# Altium footprint library WS-TASV.PcbLib: 101 footprints (part 6 of 7)
Each footprint in its own frame and in the unit in brackets; x right, y up, seen from the top. Pads: shape width x height; smd on the part's side, far side on the other; paste and mask are expansions set on the pad; w line width, h text height; cw(c..) or ccw(c..) is an arc to the next point about the centre after c.
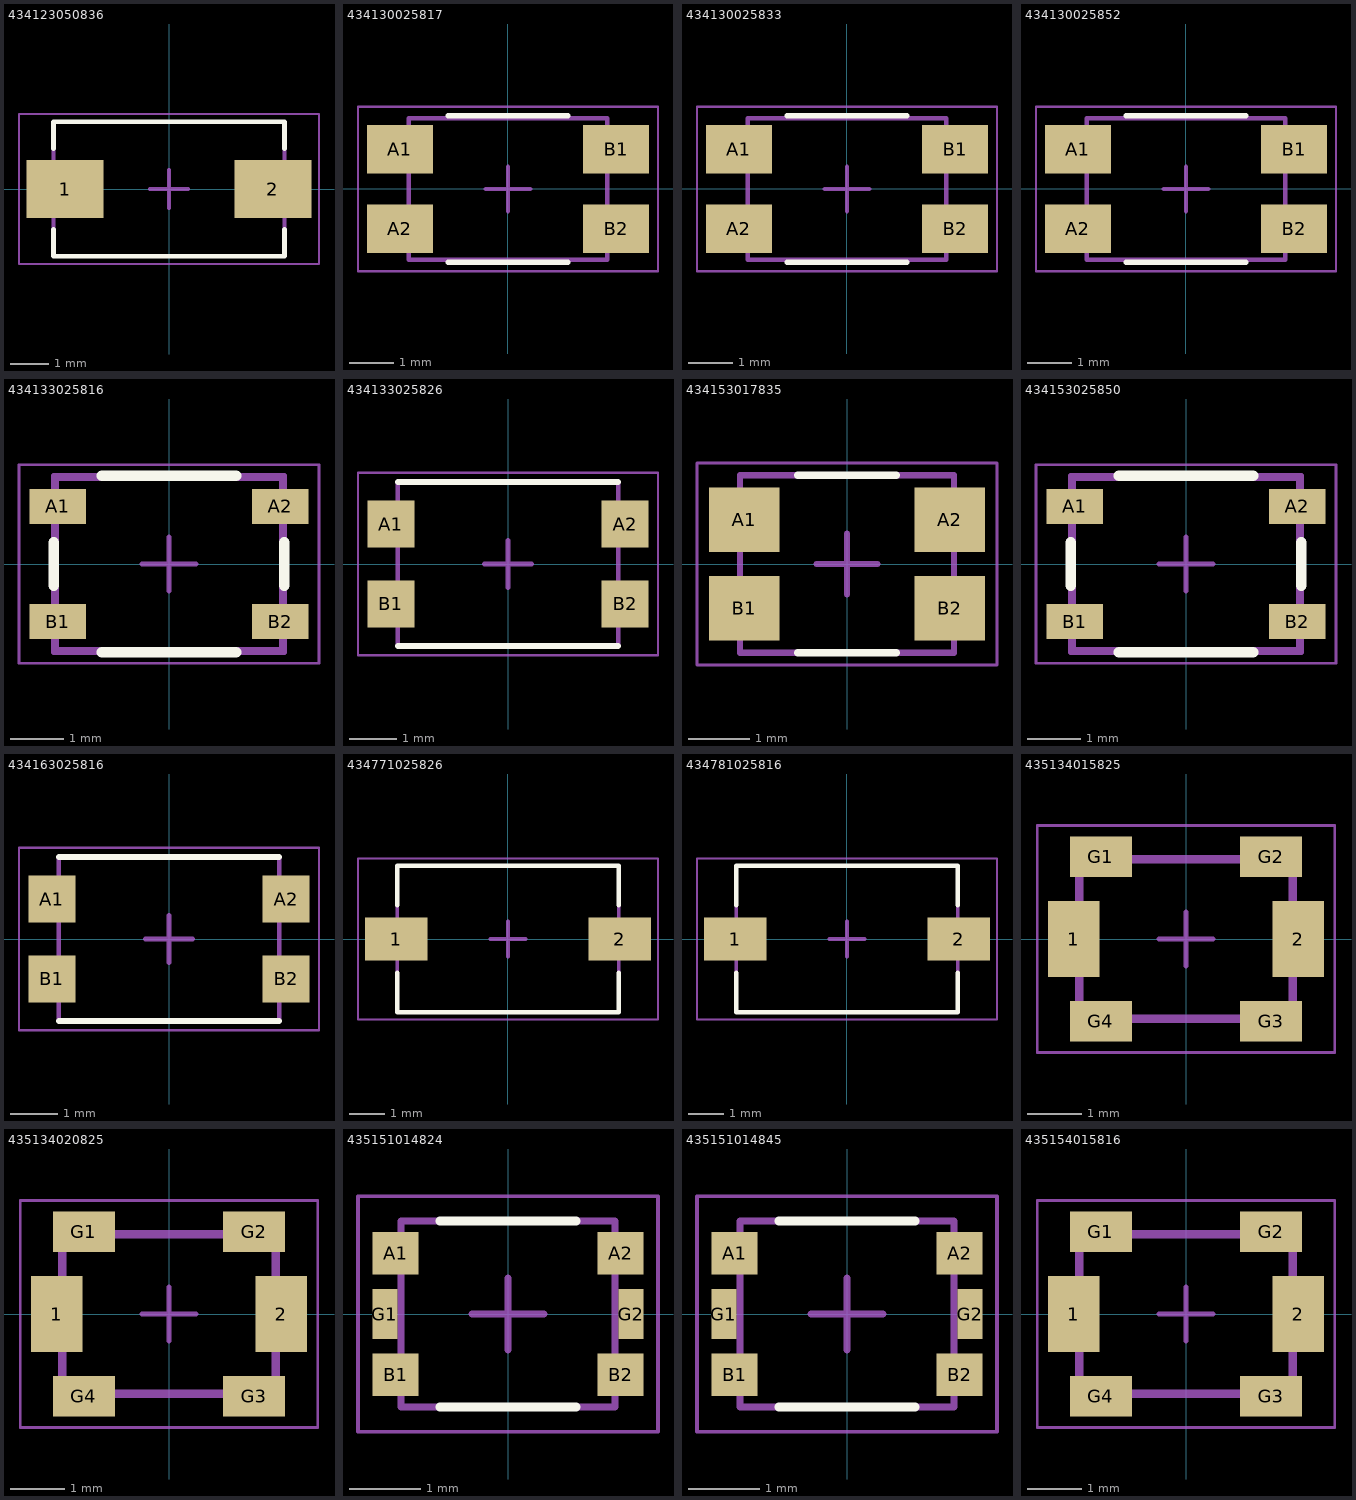
[diagram p5: the footprints below, top view; thin cyan lines are the x and y axes]

## 434123050836 [mm] "SMD Tact Switch, body 6x3.5mm"
height 5
pads (2):
  rect 2x1.5 smd: 1(-2.7,0) 2(2.7,0)
Top Overlay:
  lines w0.127: -3,-1.05 -3,-1.75 3,-1.75 3,-1.05 ; -3,1.05 -3,1.75 3,1.75 3,1.05
Top Assembly:
  lines w0.1: -3,-1.75 3,-1.75 3,1.75 -3,1.75 -3,-1.75
Top Designator:
  text ".Designator" at -3.647,-0.357 h1
Top Courtyard:
  lines w0.05: -3.9,-1.95 -3.9,1.95 3.9,1.95 3.9,-1.95 -3.9,-1.95
Top Component Center:
  lines w0.1: -0.5,0 0.5,0 ; 0,-0.5 0,0.5
3D body "4341x30508x6.stp": height 5, standoff 0, extent -3.649,-1.75 3.65,1.75

## 434130025817 [mm] "Tact Switch, body 4.90 x 3.20 mm"
height 2.5
pads (4):
  rect 1.5x1.1 smd: A1(-2.45,0.9) A2(-2.45,-0.9) B1(2.45,0.9) B2(2.45,-0.9)
Top Overlay:
  lines w0.127: -1.35,-1.663 1.35,-1.663 ; -1.35,1.663 1.35,1.663
Top Assembly:
  lines w0.1: -2.25,-1.6 -2.25,1.6 2.25,1.6 2.25,-1.6 -2.25,-1.6
Top Designator:
  text ".Designator" at -3.647,-0.357 h1
Top Courtyard:
  lines w0.05: -3.4,-1.863 -3.4,1.863 3.4,1.863 3.4,-1.863 -3.4,-1.863
Top Component Center:
  lines w0.1: -0.5,0 0.5,0 ; 0,-0.5 0,0.5
3D body "434 130 025 817.stp": height 2.5, standoff 0, extent -2.45,-1.6 2.45,1.6

## 434130025833 [mm] "Tact Switch, body 4.90 x 3.20 mm"
height 2.5
pads (4):
  rect 1.5x1.1 smd: A1(-2.45,0.9) A2(-2.45,-0.9) B1(2.45,0.9) B2(2.45,-0.9)
Top Overlay:
  lines w0.127: -1.35,-1.663 1.35,-1.663 ; -1.35,1.663 1.35,1.663
Top Assembly:
  lines w0.1: -2.25,-1.6 2.25,-1.6 2.25,1.6 -2.25,1.6 -2.25,-1.6
Top Designator:
  text ".Designator" at -3.647,-0.357 h1
Top Courtyard:
  lines w0.05: -3.4,-1.863 3.4,-1.863 3.4,1.863 -3.4,1.863 -3.4,-1.863
Top Component Center:
  lines w0.1: -0.5,0 0.5,0 ; 0,-0.5 0,0.5
3D body "434 130 025 817.stp": height 2.5, standoff 0, extent -2.45,-1.6 2.45,1.6

## 434130025852 [mm] "Tact Switch, body 4.90 x 3.20 mm"
height 2.5
pads (4):
  rect 1.5x1.1 smd: A1(-2.45,0.9) A2(-2.45,-0.9) B1(2.45,0.9) B2(2.45,-0.9)
Top Overlay:
  lines w0.127: -1.35,-1.663 1.35,-1.663 ; -1.35,1.663 1.35,1.663
Top Assembly:
  lines w0.1: -2.25,-1.6 2.25,-1.6 2.25,1.6 -2.25,1.6 -2.25,-1.6
Top Designator:
  text ".Designator" at -3.647,-0.357 h1
Top Courtyard:
  lines w0.05: -3.4,-1.863 3.4,-1.863 3.4,1.863 -3.4,1.863 -3.4,-1.863
Top Component Center:
  lines w0.1: -0.5,0 0.5,0 ; 0,-0.5 0,0.5
3D body "434 130 025 817.stp": height 2.5, standoff 0, extent -2.45,-1.6 2.45,1.6

## 434133025816 [mm] "Tact Switch, SMD, body 4.2x3.2mm"
height 2.5
pads (4):
  rect 1.05x0.65 smd: A1(-2.075,1.075) A2(2.075,1.075) B1(-2.075,-1.075) B2(2.075,-1.075)
Top Overlay:
  lines w0.2: -2.15,-0.4 -2.15,0.4 ; -1.25,-1.65 1.25,-1.65 ; -1.25,1.65 1.25,1.65 ; 2.15,-0.4 2.15,0.4
Top Assembly:
  lines w0.1: -2.15,-1.65 -2.15,1.65 2.15,1.65 2.15,-1.65 -2.15,-1.65
Top Designator:
  text ".Designator" at -3.647,-0.357 h1
Top 3D Body:
  lines w0.1: -2.1,-1.6 -2.1,1.6 2.1,1.6 2.1,-1.6 -2.1,-1.6
Top Courtyard:
  lines w0.05: -2.8,-1.85 -2.8,1.85 2.8,1.85 2.8,-1.85 -2.8,-1.85
Top Component Center:
  lines w0.1: -0.5,0 0.5,0 ; 0,-0.5 0,0.5
3D body "4341x30258x6.stp": height 2.5, standoff 0, extent -2.299,-1.6 2.299,1.6

## 434133025826 [mm] "Tact Switch, SMD, body 4.7x3.5mm"
height 2.5
pads (4):
  rect 1x1 smd: A1(-2.5,0.85) A2(2.5,0.85) B1(-2.5,-0.85) B2(2.5,-0.85)
Top Overlay:
  lines w0.127: -2.35,-1.75 2.35,-1.75 ; -2.35,1.75 2.35,1.75
Top Assembly:
  lines w0.1: -2.35,-1.75 -2.35,1.75 2.35,1.75 2.35,-1.75 -2.35,-1.75
Top Designator:
  text ".Designator" at -3.647,-0.357 h1
Top Courtyard:
  lines w0.05: -3.2,-1.95 -3.2,1.95 3.2,1.95 3.2,-1.95 -3.2,-1.95
Top Component Center:
  lines w0.1: -0.5,0 0.5,0 ; 0,-0.5 0,0.5
3D body "4341x30258x6.stp": height 2.55, standoff 0, extent -2.753,-1.75 2.753,1.75

## 434153017835 [mm] "Tact Switch, SMD, body 3.5x2.9mm"
height 1.7
pads (4):
  rect 1.15x1.05 smd: A1(-1.675,0.725) A2(1.675,0.725) B1(-1.675,-0.725) B2(1.675,-0.725)
Top Overlay:
  lines w0.127: -0.8,-1.45 0.8,-1.45 ; -0.8,1.45 0.8,1.45
Top Assembly:
  lines w0.1: -1.75,-1.45 1.75,-1.45 1.75,1.45 -1.75,1.45 -1.75,-1.45
Top Designator:
  text ".Designator" at -3.647,-0.357 h1
Top Courtyard:
  lines w0.05: -2.45,-1.65 2.45,-1.65 2.45,1.65 -2.45,1.65 -2.45,-1.65
Top Component Center:
  lines w0.1: -0.5,0 0.5,0 ; 0,-0.5 0,0.5
3D body "434153017835.stp": height 1.7, standoff 0, extent -2.147,-1.45 2.147,1.45

## 434153025850 [mm] "Tact Switch, SMD, body 4.2x3.2mm"
height 2.5
pads (4):
  rect 1.05x0.65 smd: A1(-2.075,1.075) A2(2.075,1.075) B1(-2.075,-1.075) B2(2.075,-1.075)
Top Overlay:
  lines w0.2: -2.15,-0.4 -2.15,0.4 ; -1.25,-1.65 1.25,-1.65 ; -1.25,1.65 1.25,1.65 ; 2.15,-0.4 2.15,0.4
Top Assembly:
  lines w0.1: -2.15,-1.65 2.15,-1.65 2.15,1.65 -2.15,1.65 -2.15,-1.65
Top Designator:
  text ".Designator" at -3.647,-0.357 h1
Top 3D Body:
  lines w0.1: -2.1,-1.6 2.1,-1.6 2.1,1.6 -2.1,1.6 -2.1,-1.6
Top Courtyard:
  lines w0.05: -2.8,-1.85 2.8,-1.85 2.8,1.85 -2.8,1.85 -2.8,-1.85
Top Component Center:
  lines w0.1: -0.5,0 0.5,0 ; 0,-0.5 0,0.5
3D body "4341x30258x6.stp": height 2.5, standoff 0, extent -2.299,-1.6 2.299,1.6

## 434163025816 [mm] "Tact Switch, SMD, body 4.7x3.5mm"
height 2.5
pads (4):
  rect 1x1 smd: A1(-2.5,0.85) A2(2.5,0.85) B1(-2.5,-0.85) B2(2.5,-0.85)
Top Overlay:
  lines w0.127: -2.35,-1.75 2.35,-1.75 ; -2.35,1.75 2.35,1.75
Top Assembly:
  lines w0.1: -2.35,-1.75 2.35,-1.75 2.35,1.75 -2.35,1.75 -2.35,-1.75
Top Designator:
  text ".Designator" at -3.647,-0.357 h1
Top Courtyard:
  lines w0.05: -3.2,-1.95 3.2,-1.95 3.2,1.95 -3.2,1.95 -3.2,-1.95
Top Component Center:
  lines w0.1: -0.5,0 0.5,0 ; 0,-0.5 0,0.5
3D body "4341x30258x6.stp": height 2.55, standoff 0, extent -2.753,-1.75 2.753,1.75

## 434771025826 [mm] "SMT IP67 Tact Switch"
height 2.5
pads (2):
  rect 1.75x1.2 smd: 1(-3.125,0) 2(3.125,0)
Top Overlay:
  lines w0.127: -3.1,-0.95 -3.1,-2.05 3.1,-2.05 3.1,-0.95 ; -3.1,0.95 -3.1,2.05 3.1,2.05 3.1,0.95
Top Assembly:
  lines w0.1: -3.1,-0.45 -3.65,-0.45 -3.65,0.45 -3.1,0.45 ; 3.1,-0.45 3.65,-0.45 3.65,0.45 3.1,0.45 ; -3.1,-2.05 3.1,-2.05 3.1,2.05 -3.1,2.05 -3.1,-2.05
Top Designator:
  text ".Designator" at -3.647,-0.357 h1
Top Courtyard:
  lines w0.05: -4.2,-2.25 -4.2,2.25 4.2,2.25 4.2,-2.25 -4.2,-2.25
Top Component Center:
  lines w0.1: -0.5,0 0.5,0 ; 0,-0.5 0,0.5
3D body "434781025816.stp": height 2.5, standoff 0, extent -3.65,-2.1 3.65,2.1

## 434781025816 [mm] "SMT IP67 Tact Switch"
height 2.5
pads (2):
  rect 1.75x1.2 smd: 1(-3.125,0) 2(3.125,0)
Top Overlay:
  lines w0.127: -3.1,-0.95 -3.1,-2.05 3.1,-2.05 3.1,-0.95 ; -3.1,0.95 -3.1,2.05 3.1,2.05 3.1,0.95
Top Assembly:
  lines w0.1: -3.1,-0.45 -3.65,-0.45 -3.65,0.45 -3.1,0.45 ; 3.1,-0.45 3.65,-0.45 3.65,0.45 3.1,0.45 ; -3.1,-2.05 3.1,-2.05 3.1,2.05 -3.1,2.05 -3.1,-2.05
Top Designator:
  text ".Designator" at -3.647,-0.357 h1
Top Courtyard:
  lines w0.05: -4.2,-2.25 -4.2,2.25 4.2,2.25 4.2,-2.25 -4.2,-2.25
Top Component Center:
  lines w0.1: -0.5,0 0.5,0 ; 0,-0.5 0,0.5
3D body "434781025816.stp": height 2.5, standoff 0, extent -3.65,-2.1 3.65,2.1

## 435134015825 [mm]
height 1.5
pads (6):
  rect 0.95x1.4 smd: 1(-2.075,0) 2(2.075,0)
  rect 1.15x0.75 smd: G1(-1.575,1.525) G2(1.575,1.525) G3(1.575,-1.525) G4(-1.575,-1.525)
Top Assembly:
  lines w0.1: -2,-1.5 2,-1.5 2,1.5 -2,1.5 -2,-1.5
Top Designator:
  text ".Designator" at -3.647,-0.357 h1
Top 3D Body:
  lines w0.1: -1.95,-1.45 1.95,-1.45 1.95,1.45 -1.95,1.45 -1.95,-1.45
Top Courtyard:
  lines w0.05: -2.75,-2.1 2.75,-2.1 2.75,2.1 -2.75,2.1 -2.75,-2.1
Top Component Center:
  lines w0.1: -0.5,0 0.5,0 ; 0,-0.5 0,0.5
3D body "435 134 015 825.stp": height 1.55, standoff 0.05, extent -2.267,-1.451 2.267,1.451

## 435134020825 [mm]
height 2
pads (6):
  rect 0.95x1.4 smd: 1(-2.075,0) 2(2.075,0)
  rect 1.15x0.75 smd: G1(-1.575,1.525) G2(1.575,1.525) G3(1.575,-1.525) G4(-1.575,-1.525)
Top Assembly:
  lines w0.1: -2,-1.5 -2,1.5 2,1.5 2,-1.5 -2,-1.5
Top Designator:
  text ".Designator" at -3.647,-0.357 h1
Top 3D Body:
  lines w0.1: -1.95,-1.45 -1.95,1.45 1.95,1.45 1.95,-1.45 -1.95,-1.45
Top Courtyard:
  lines w0.05: -2.75,-2.1 -2.75,2.1 2.75,2.1 2.75,-2.1 -2.75,-2.1
Top Component Center:
  lines w0.1: -0.5,0 0.5,0 ; 0,-0.5 0,0.5
3D body "435134020825.stp": height 2.02, standoff 0.02, extent -2.267,-1.451 2.267,1.451

## 435151014824 [mm] "SMD Tact Switch, body 3x2.6mm"
height 1.4
pads (6):
  rect 0.65x0.6 smd: A1(-1.575,0.85) A2(1.575,0.85) B1(-1.575,-0.85) B2(1.575,-0.85)
  rect 0.35x0.7 smd: G1(-1.725,0) G2(1.725,0)
Top Overlay:
  lines w0.127: -0.95,-1.3 0.95,-1.3 ; -0.95,1.3 0.95,1.3
Top Assembly:
  lines w0.1: -1.5,-1.3 1.5,-1.3 1.5,1.3 -1.5,1.3 -1.5,-1.3
Top Designator:
  text ".Designator" at -3.647,-0.357 h1
Top Courtyard:
  lines w0.05: -2.1,-1.65 2.1,-1.65 2.1,1.65 -2.1,1.65 -2.1,-1.65
Top Component Center:
  lines w0.1: -0.5,0 0.5,0 ; 0,-0.5 0,0.5
3D body "4351x10148xx.stp": height 1.43, standoff 0.02, extent -1.75,-1.3 1.75,1.3

## 435151014845 [mm] "SMD Tact Switch, body 3x2.6mm"
height 1.4
pads (6):
  rect 0.65x0.6 smd: A1(-1.575,0.85) A2(1.575,0.85) B1(-1.575,-0.85) B2(1.575,-0.85)
  rect 0.35x0.7 smd: G1(-1.725,0) G2(1.725,0)
Top Overlay:
  lines w0.127: -0.95,-1.3 0.95,-1.3 ; -0.95,1.3 0.95,1.3
Top Assembly:
  lines w0.1: -1.5,-1.3 -1.5,1.3 1.5,1.3 1.5,-1.3 -1.5,-1.3
Top Designator:
  text ".Designator" at -3.647,-0.357 h1
Top Courtyard:
  lines w0.05: -2.1,-1.65 -2.1,1.65 2.1,1.65 2.1,-1.65 -2.1,-1.65
Top Component Center:
  lines w0.1: -0.5,0 0.5,0 ; 0,-0.5 0,0.5
3D body "4351x10148xx.stp": height 1.43, standoff 0.02, extent -1.75,-1.3 1.75,1.3

## 435154015816 [mm]
height 1.5
pads (6):
  rect 0.95x1.4 smd: 1(-2.075,0) 2(2.075,0)
  rect 1.15x0.75 smd: G1(-1.575,1.525) G2(1.575,1.525) G3(1.575,-1.525) G4(-1.575,-1.525)
Top Assembly:
  lines w0.1: -2,-1.5 -2,1.5 2,1.5 2,-1.5 -2,-1.5
Top Designator:
  text ".Designator" at -3.647,-0.357 h1
Top 3D Body:
  lines w0.1: -1.95,-1.45 -1.95,1.45 1.95,1.45 1.95,-1.45 -1.95,-1.45
Top Courtyard:
  lines w0.05: -2.75,-2.1 -2.75,2.1 2.75,2.1 2.75,-2.1 -2.75,-2.1
Top Component Center:
  lines w0.1: -0.5,0 0.5,0 ; 0,-0.5 0,0.5
3D body "435 154 015 816.stp": height 1.55, standoff 0.05, extent -2.267,-1.451 2.267,1.451